# Altium integrated library SSW-116-XX-X-S.IntLib: 1 symbol
Pins are listed as number, name and electrical type; pins without a type are passive.

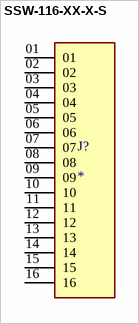
[diagram p0: symbol SSW-116-XX-X-S]

## SSW-116-XX-X-S
designator J?
16 Position Receptacle Connector Through Hole; MP: SSW-116-01-G-S; MF: Samtec; Availability: Bad; SnapEDA_Link: https://www.snapeda.com/parts/SSW-116-01-G-S/Samtec%20Inc./view-part/469234/?ref=snap; Check_prices: https://www.snapeda.com/parts/SSW-116-01-G-S/Samtec%20Inc./view-part/469234/?ref=eda; Package: None; Purchase-URL: https://pricing.snapeda.com/search/part/SSW-116-01-G-S/?ref=eda; Price: None; Value: *
footprint SAMTEC_SSW-116-XX-X-S
pins: 01, 02, 03, 04, 05, 06, 07, 08, 09, 10, 11, 12, 13, 14, 15, 16